# Altium integrated library LED.IntLib: 3 symbols
Pins are listed as number, name and electrical type; pins without a type are passive.

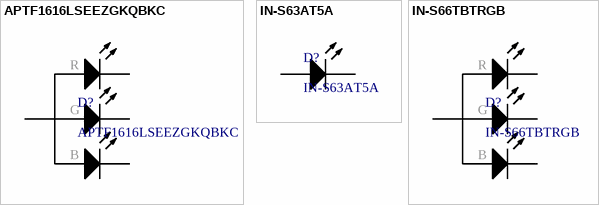
[diagram p0: symbols APTF1616LSEEZGKQBKC to IN-S66TBTRGB]

## APTF1616LSEEZGKQBKC
designator D?
Red, Green, Blue (RGB) 621nm Red, 525nm Green, 465nm Blue LED Indication - Discrete 1.8V Red, 2.7V Green, 2.7V Blue 0606 (1616 Metric); Manufacturer 1: Kingbright; Viewing Angle: 120°; Wavelength - Peak: 630nm Red, 515nm Green, 460nm Blue; Lens Transparency: Clear; Millicandela Rating: 15mcd Red, 50mcd Green, 14mcd Blue; Lens Style: Rectangle with Flat Top; Lens Size: 1.20mm x 1.60mm; Lens Color: Colorless; Current - Test: 2mA Red, 2mA Green, 2mA Blue; Configuration: Common Anode; Supplier Part Number 1: 754-1972-1-ND; Supplier 1: Digi-Key; Manufacturer Part Number 1: APTF1616LSEEZGKQBKC; Voltage - Forward (Vf) (Typ): 1.8V Red, 2.7V Green, 2.7V Blue; Wavelength - Dominant: 621nm Red, 525nm Green, 465nm Blue; Color: RGB
footprint LEDM85P160X160-4N (Chip Array, Concave, 4-Leads, Pitch 0.85mm,  Body 1.60x1.60mm,  IPC Medium Density)
pins: 1 A, 2 R_K, 3 G_K, 4 B_K
text: R; G; B

## IN-S63AT5A
designator D?
Amber 605nm LED Indication - Discrete 2V 0603 (1608 Metric); Manufacturer 1: Inolux; Viewing Angle: 120°; Wavelength - Peak: 609 nm; Lens Transparency: Clear; Millicandela Rating: 35 mcd; Lens Style: Rectangle with Flat Top; Lens Size: 1.15mm x 0.80mm; Current - Test: 5 mA; Configuration: Standard; Supplier 1: Digi-Key; Manufacturer Part Number 1: IN-S63AT5A; Voltage - Forward (Vf) (Typ): 2 V; Wavelength - Dominant: 605 nm; Lens Color: Clear; Color: Amber; Supplier Part Number 1: 1830-1064-1-ND
footprint LEDM0603_M1608X06N (Chip Resistor, 2-Leads, Body 1.60x0.80mm, IPC Medium Density)
pins: 1 K, 2 A

## IN-S66TBTRGB
designator D?
Red, Green, Blue (RGB) 620nm Red, 521nm Green, 467nm Blue LED Indication - Discrete 2.2V Red, 3.2V Green, 3.2V Blue 0606 (1616 Metric); Manufacturer 1: Inolux; Viewing Angle: 120°; Wavelength - Peak: 630nm Red, 530nm Green, 471nm Blue; Lens Transparency: Clear; Millicandela Rating: 180mcd Red, 450mcd Green, 115mcd Blue; Lens Style: Rectangle with Flat Top; Lens Size: 1.50mm x 1.15mm; Current - Test: 20mA Red, 20mA Green, 20mA Blue; Configuration: Common Anode; Supplier Part Number 1: 1830-1076-1-ND; Supplier 1: Digi-Key; Manufacturer Part Number 1: IN-S66TBTRGB; Voltage - Forward (Vf) (Typ): 2.2V Red, 3.2V Green, 3.2V Blue; Wavelength - Dominant: 620nm Red, 521nm Green, 467nm Blue; Lens Color: Clear; Color: RGB
footprint LEDM80P150X160-4N (Chip Array, Concave, 4-Leads, Pitch 0.80mm,  Body 1.50x1.60mm,  IPC Medium Density)
pins: 1 A, 2 R_K, 3 B_K, 4 G_K
text: R; G; B